# EAGLE library part DMG1029SV-7 (library DMG1029SV-7)
Diodes Inc DMG1029SV-7 Dual N/P-channel MOSFET Transistor, 6-Pin SOT-563 Source: Datasheet <https://www.diodes.com/assets/Datasheets/DMG1029SV.pdf>
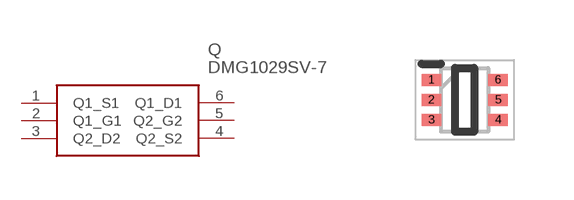
[diagram p0: symbol with the pads of SOTFL50P162X60-6N; footprint SOTFL50P162X60-6N]

Designator prefix Q

## DMG1029SV-7 (Arrow_Part_Number: DMG1029SV-7; Arrow_Price-Stock: https://www.arrow.com/en/products/dmg1029sv-7/diodes-incorporated; Description: Diodes Inc DMG1029SV-7 Dual N/P-channel MOSFET Transistor, 6-Pin SOT-563; Height: 0.6mm; Manufacturer_Name: Diodes Inc.; Manufacturer_Part_Number: DMG1029SV-7; Mouser_Part_Number: 621-DMG1029SV-7; Mouser_Price-Stock: https://www.mouser.co.uk/ProductDetail/Diodes-Incorporated/DMG1029SV-7?qs=gfe7vQ8txpXkNqlWcYvGlA%3D%3D)  [SOTFL50P162X60-6N]
1  Q1_S1
2  Q1_G1
3  Q2_D2
4  Q2_S2
5  Q2_G2
6  Q1_D1

## Footprint SOTFL50P162X60-6N (pad centres in mm)
SOT563-1
smd 0.492 x 0.3: 1 -0.834,0.5; 2 -0.834,0; 3 -0.834,-0.5; 4 0.834,-0.5; 5 0.834,0; 6 0.834,0.5